# Altium schematic symbol library 3V6_zener_BZT52C3V6-7-F.SchLib: 1 symbol
Pins are listed as number, name and electrical type; pins without a type are passive.

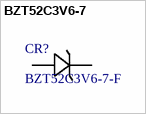
[diagram p0: symbol BZT52C3V6-7]

## BZT52C3V6-7
designator CR?, comment BZT52C3V6-7-F
Zener Diodes 500mW 3.6V Zener AEC-Q101 Qualified; Vendor: Diodes Inc; Built_By: EMA_UL_Team; Type: DEV; C: Copyright (C) 2015 Accelerated Designs. All rights reserved; Manufacturer_Part_Number: BZT52C3V6-7-F; RefDes: RefDes; Value: Value; Supplier 1: Mouser; Supplier Part Number 1: 621-BZT52C3V6-F
footprint SOD123
pins: 1, 2